# EAGLE library part IVC102 (library den)
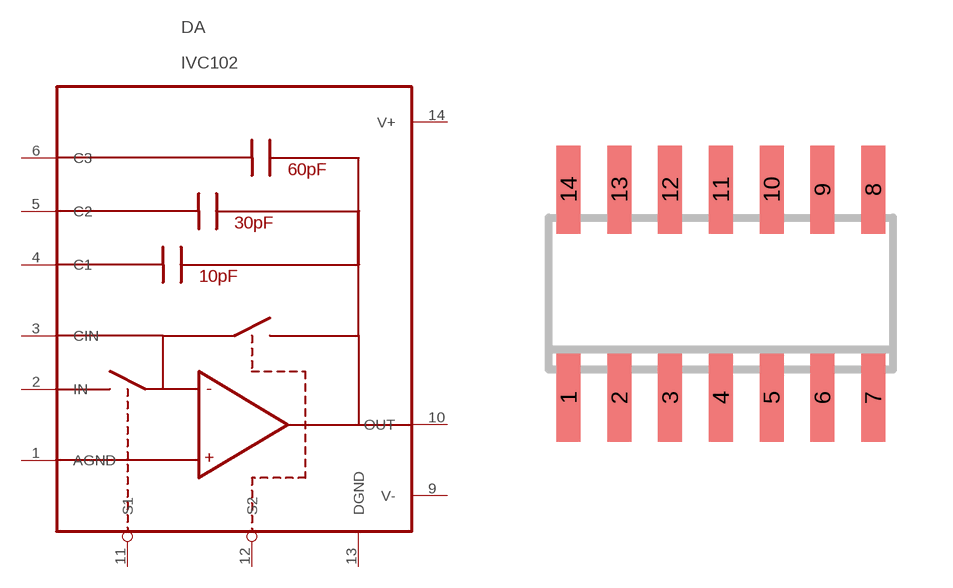
[diagram p22: symbol with the pads of SO-14; footprint SO-14]

Designator prefix DA

## IVC102  [SO-14]
1  AGND  in
2  IN  in
3  CIN  pas
4  C1  pas
5  C2  pas
6  C3  pas
9  V-  pwr
10  OUT
11  S1  in
12  S2  in
13  DGND  pwr
14  V+  pwr

## Footprint SO-14 (pad centres in mm)
Small Outline Narrow Plastic Gull Wing 150-mil body, package type SL
smd 0.6 x 2.2: 1 -3.81,-2.6; 2 -2.54,-2.6; 3 -1.27,-2.6; 4 0,-2.6; 5 1.27,-2.6; 6 2.54,-2.6; 7 3.81,-2.6; 8 3.81,2.6; 9 2.54,2.6; 10 1.27,2.6; 11 0,2.6; 12 -1.27,2.6; 13 -2.54,2.6; 14 -3.81,2.6